# Altium integrated library XT9S20ANA16M.IntLib: 1 symbol
Pins are listed as number, name and electrical type; pins without a type are passive.

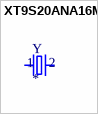
[diagram p0: symbol XT9S20ANA16M]

## XT9S20ANA16M
designator Y
Microprocessor, Crystal; 16 MHz; + 30 ppm _Typ._ @ 25 degC; 7 pF _Max._; 40 Ohm; MF: Vishay Dale; MP: XT9S20ANA16M; Value: *; SnapEDA_Link: https://www.snapeda.com/parts/XT9S20ANA16M/Vishay%20Dale/view-part/231144/?ref=snap; Price: None; Availability: Unavailable; Package: None
footprint XTAL_XT9S20ANA16M
pins: 1, 2